# EAGLE library part AT86RF231 (library at86rf231)
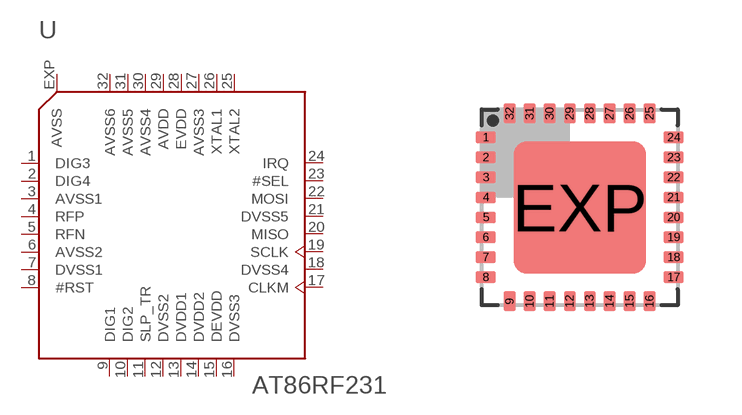
[diagram p0: symbol with the pads of QFN32; footprint QFN32]

Designator prefix -

## AT86RF231  [QFN32]
1  DIG3  sup
2  DIG4  sup
3  AVSS1  pwr
4  RFP
5  RFN
6  AVSS2  pwr
7  DVSS1  pwr
8  #RST  in
9  DIG1  sup
10  DIG2  sup
11  SLP_TR  in
12  DVSS2  pwr
13  DVDD1  sup
14  DVDD2  sup
15  DEVDD  sup
16  DVSS3  pwr
17  CLKM  out
18  DVSS4  pwr
19  SCLK  in
20  MISO  out
21  DVSS5  pwr
22  MOSI  in
23  #SEL  in
24  IRQ  out
25  XTAL2
26  XTAL1  in
27  AVSS3  pwr
28  EVDD  sup
29  AVDD  sup
30  AVSS4  pwr
31  AVSS5  pwr
32  AVSS6
EXP  AVSS  pwr

## Footprint QFN32 (pad centres in mm)
QFN 32 5 x 5 mm Source: http://datasheets.maxim-ic.com/en/ds/MAX7042.pdf
smd 0.5 x 0.3: 1 -2.35,1.75; 2 -2.35,1.25; 3 -2.35,0.75; 4 -2.35,0.25; 5 -2.35,-0.25; 6 -2.35,-0.75; 7 -2.35,-1.25; 8 -2.35,-1.75; 17 2.35,-1.75; 18 2.35,-1.25; 19 2.35,-0.75; 20 2.35,-0.25; 21 2.35,0.25; 22 2.35,0.75; 23 2.35,1.25; 24 2.35,1.75
smd 0.3 x 0.5: 9 -1.75,-2.35; 10 -1.25,-2.35; 11 -0.75,-2.35; 12 -0.25,-2.35; 13 0.25,-2.35; 14 0.75,-2.35; 15 1.25,-2.35; 16 1.75,-2.35; 25 1.75,2.35; 26 1.25,2.35; 27 0.75,2.35; 28 0.25,2.35; 29 -0.25,2.35; 30 -0.75,2.35; 31 -1.25,2.35; 32 -1.75,2.35
smd 3.3 x 3.3: EXP 0,0